# Altium footprint library 晶振贴片.PcbLib: 1 footprints
Each footprint in its own frame and in the unit in brackets; x right, y up, seen from the top. Pads: shape width x height; smd on the part's side, far side on the other; paste and mask are expansions set on the pad; w line width, h text height; cw(c..) or ccw(c..) is an arc to the next point about the centre after c.
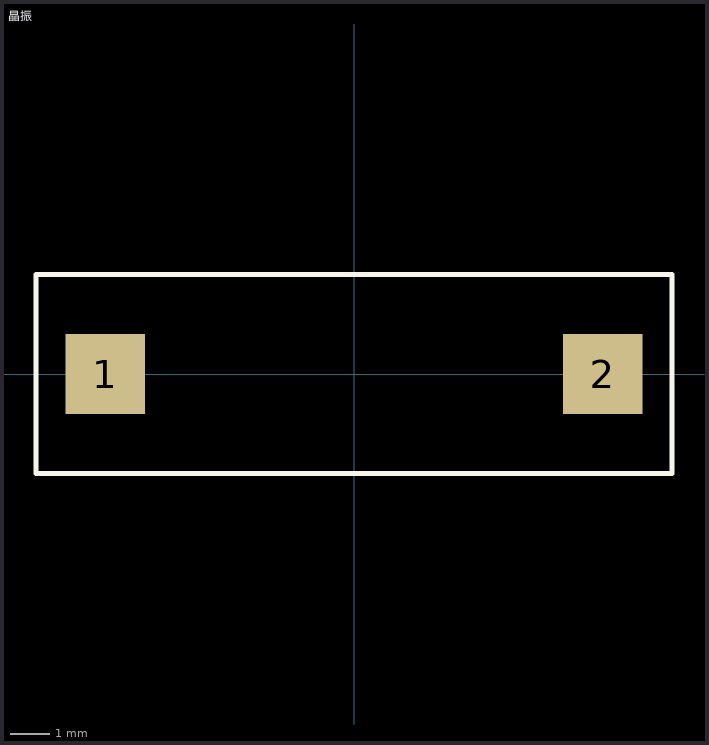
[diagram p0: the footprint, top view; thin cyan lines are the x and y axes]

## 晶振 [mm]
pads (2):
  rect 2x2 smd: 1(-6.25,0) 2(6.25,0)
Top Overlay:
  lines w0.127: 0,2.5 -7.5,2.5 ; -7.5,2.5 -8,2.5 -8,2 -8,-2.5 8,-2.5 8,2.5 -7.5,2.5